# Altium schematic symbol library Components - 12.06.24 - 00.46.SchLib: 1 symbol
Pins are listed as number, name and electrical type; pins without a type are passive.

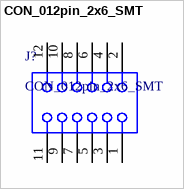
[diagram p0: symbol CON_012pin_2x6_SMT]

## CON_012pin_2x6_SMT
designator J?
Pitch: 2.54 mm; Mounting Technology: Surface Mount; RoHS: True; Orientation: Vertical; DatasheetVersion: F-214; Temperature Range: -55 to 125 degC; PackageVersion: AK, 3/2000; PackageDescription: .100 C.L. Double Vertical SMT Socket Strip
footprint CON_012pin_2x6_SMT_Female (C.L. Double Vertical SMT Socket Strip, 2x6 Pins, 2.54mm Pitch, Female)
pins: 1, 2, 3, 4, 5, 6, 7, 8, 9, 10, 11, 12